# Altium schematic symbol library CC0402KRX5R6BB105.SchLib: 2 symbols
Pins are listed as number, name and electrical type; pins without a type are passive.

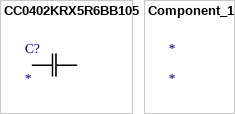
[diagram p0: symbols CC0402KRX5R6BB105 to Component_1]

## CC0402KRX5R6BB105
designator C?
No Description Available; Mfr_Name: Yageo
footprint YAG_CC0402_YAG
pins: 1, 2

## Component_1
designator *